# Altium schematic symbol library MSB.SchLib: 1 symbol
Pins are listed as number, name and electrical type; pins without a type are passive.

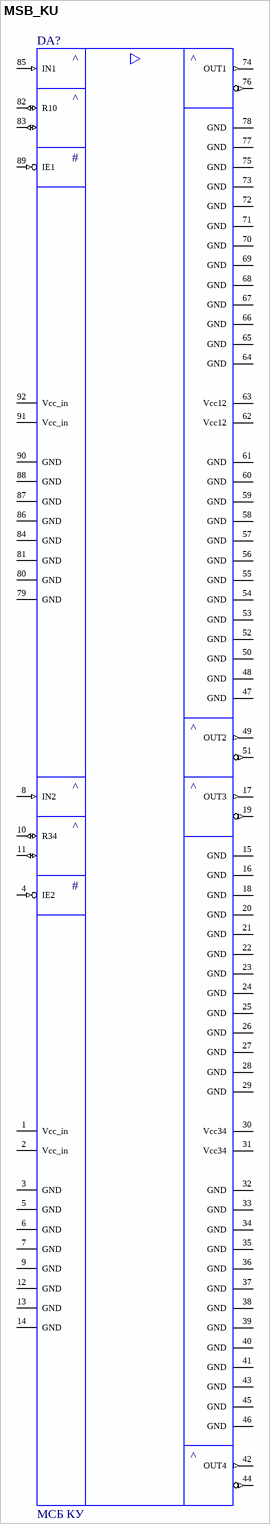
[diagram p0: symbol MSB_KU]

## MSB_KU
designator DA?, comment МСБ КУ
ValueSch: МСБ КУ
pins: 1 Vcc_in (power) "Напряжение питания", 2 Vcc_in (power) "Напряжение питания", 3 GND (power) "Общий провод", 4 IE2 (in) "Вход разрешения входа 2", 5 GND (power) "Общий провод", 6 GND (power) "Общий провод", 7 GND (power) "Общий провод", 8 IN2 (in) "Вход 2", 9 GND (power) "Общий провод", 10 R34 (io) "Резистор задания усиления 2-го входного канала", 11 R34_2 (io) "Резистор задания усиления 2-го входного канала", 12 GND (power) "Общий провод", 13 GND (power) "Общий провод", 14 GND (power) "Общий провод", 15 GND (power) "Общий провод", 16 GND (power) "Общий провод", 17 OUT3 (out) "Выход 3-го канала", 18 GND (power) "Общий провод", 19 OUT3_2 (out) "Выход 3-го канала", 20 GND (power) "Общий провод", 21 GND (power) "Общий провод", 22 GND (power) "Общий провод", 23 GND (power) "Общий провод", 24 GND (power) "Общий провод", 25 GND (power) "Общий провод", 26 GND (power) "Общий провод", 27 GND (power) "Общий провод", 28 GND (power) "Общий провод", 29 GND (power) "Общий провод", 30 Vcc34 (power) "Вход питания 3 и 4 выходных каналов", 31 Vcc34 (power) "Вход питания 3 и 4 выходных каналов", 32 GND (power) "Общий провод", 33 GND (power) "Общий провод", 34 GND (power) "Общий провод", 35 GND (power) "Общий провод", 36 GND (power) "Общий провод", 37 GND (power) "Общий провод", 38 GND (power) "Общий провод", 39 GND (power) "Общий провод", 40 GND (power) "Общий провод", 41 GND (power) "Общий провод", 42 OUT4 (out) "Выход 4-го канала", 43 GND (power) "Общий провод", 44 OUT4_2 (out) "Выход 4-го канала", 45 GND (power) "Общий провод", 46 GND (power) "Общий провод", 47 GND (power) "Общий провод", 48 GND (power) "Общий провод", 49 OUT2 (out) "Выход 2-го канала", 50 GND (power) "Общий провод", 51 OUT2_2 (out) "Выход 2-го канала", 52 GND (power) "Общий провод", 53 GND (power) "Общий провод", 54 GND (power) "Общий провод", 55 GND (power) "Общий провод", 56 GND (power) "Общий провод", 57 GND (power) "Общий провод", 58 GND (power) "Общий провод", 59 GND (power) "Общий провод", 60 GND (power) "Общий провод", 61 GND (power) "Общий провод", 62 Vcc12 (power) "Вход питания 1 и 2 выходных каналов", 63 Vcc12 (power) "Вход питания 1 и 2 выходных каналов", 64 GND (power) "Общий провод", 65 GND (power) "Общий провод", 66 GND (power) "Общий провод", 67 GND (power) "Общий провод", 68 GND (power) "Общий провод", 69 GND (power) "Общий провод", 70 GND (power) "Общий провод", 71 GND (power) "Общий провод", 72 GND (power) "Общий провод", 73 GND (power) "Общий провод", 74 OUT1 (out) "Выход 1-го канала", 75 GND (power) "Общий провод", 76 OUT1_2 (out) "Выход 1-го канала", 77 GND (power) "Общий провод", 78 GND (power) "Общий провод", 79 GND (power) "Общий провод", 80 GND (power) "Общий провод", 81 GND (power) "Общий провод", 82 R10 (io) "Резистор задания усиления 1-го входного канала", 83 R10_2 (io) "Резистор задания усиления 1-го входного канала", 84 GND (power) "Общий провод", 85 IN1 (in) "Вход 1", 86 GND (power) "Общий провод", 87 GND (power) "Общий провод", 88 GND (power) "Общий провод", 89 IE1 (in) "Вход разрешения входа 1", 90 GND (power) "Общий провод", 91 Vcc_in (power) "Питание входных каскадов", 92 Vcc_in (power) "Питание входных каскадов"
text: ^; #